# Altium schematic symbol library STC.SchLib: 1 symbol
Pins are listed as number, name and electrical type; pins without a type are passive.

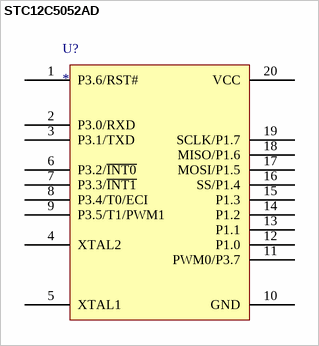
[diagram p0: symbol STC12C5052AD]

## STC12C5052AD
designator U?
pins: 1 P3.6/RST#, 2 P3.0/RXD, 3 P3.1/TXD, 4 XTAL2, 5 XTAL1, 6 P3.2/~{INT0}, 7 P3.3/~{INT1}, 8 P3.4/T0/ECI, 9 P3.5/T1/PWM1, 10 GND, 11 PWM0/P3.7, 12 P1.0, 13 P1.1, 14 P1.2, 15 P1.3, 16 SS/P1.4, 17 MOSI/P1.5, 18 MISO/P1.6, 19 SCLK/P1.7, 20 VCC